# EAGLE library part SN74BCT8240A (library ti_scope)
SN54BCT8240A, SN74BCT8240A Version 2
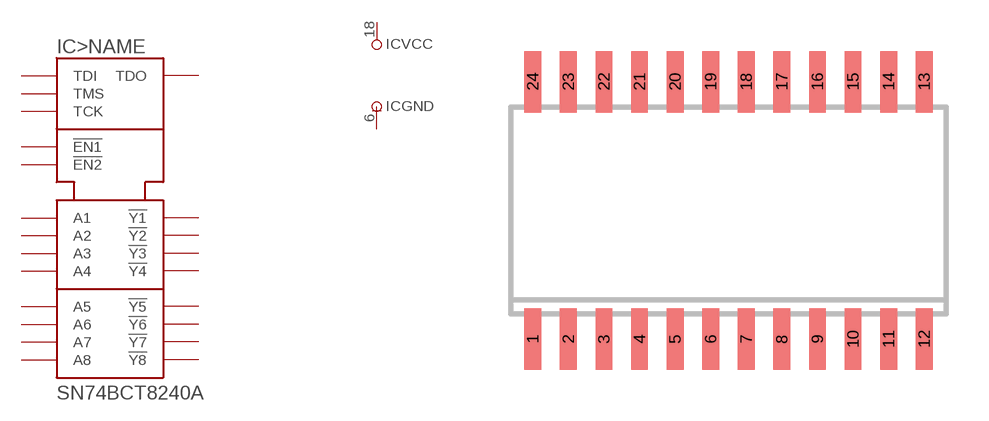
[diagram p0: symbol with the pads of SOIC24; footprint SOIC24]

Designator prefix IC; gates >NAME=SN74BCT8240A VCC=VCC GND=GND

## SN74BCT8240ADWR  [SOIC24]
1  >NAME:!EN1  in
2  >NAME:!Y1  hiz
3  >NAME:!Y2  hiz
4  >NAME:!Y3  hiz
5  >NAME:!Y4  hiz
6  GND:-UB  pwr
7  >NAME:!Y5  hiz
8  >NAME:!Y6  hiz
9  >NAME:!Y7  hiz
10  >NAME:!Y8  hiz
11  >NAME:TDO  oc
12  >NAME:TMS  in
13  >NAME:TCK  in
14  >NAME:TDI  in
15  >NAME:A8  in
16  >NAME:A7  in
17  >NAME:A6  in
18  VCC:+UB  pwr
19  >NAME:A5  in
20  >NAME:A4  in
21  >NAME:A3  in
22  >NAME:A2  in
23  >NAME:A1  in
24  >NAME:!EN2  in

## Footprint SOIC24 (pad centres in mm)
SIOC24
smd 0.6 x 2.2: 1 -6.985,-4.6; 2 -5.715,-4.6; 3 -4.445,-4.6; 4 -3.175,-4.6; 5 -1.905,-4.6; 6 -0.635,-4.6; 7 0.635,-4.6; 8 1.905,-4.6; 9 3.175,-4.6; 10 4.445,-4.6; 11 5.715,-4.6; 12 6.985,-4.6; 13 6.985,4.6; 14 5.715,4.6; 15 4.445,4.6; 16 3.175,4.6; 17 1.905,4.6; 18 0.635,4.6; 19 -0.635,4.6; 20 -1.905,4.6; 21 -3.175,4.6; 22 -4.445,4.6; 23 -5.715,4.6; 24 -6.985,4.6